# Altium schematic symbol library 固定柱和测试点.SchLib: 2 symbols
Pins are listed as number, name and electrical type; pins without a type are passive.

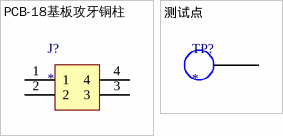
[diagram p0: symbols PCB-18基板攻牙铜柱 to 测试点]

## PCB-18基板攻牙铜柱
designator J?
footprint PCB-18基板攻牙铜柱
pins: 1, 2, 3, 4

## 测试点
designator TP?
footprint TP
pins: 1 TP